# Altium footprint library 705550001.PcbLib: 1 footprints
Each footprint in its own frame and in the unit in brackets; x right, y up, seen from the top. Pads: shape width x height; smd on the part's side, far side on the other; paste and mask are expansions set on the pad; w line width, h text height; cw(c..) or ccw(c..) is an arc to the next point about the centre after c.
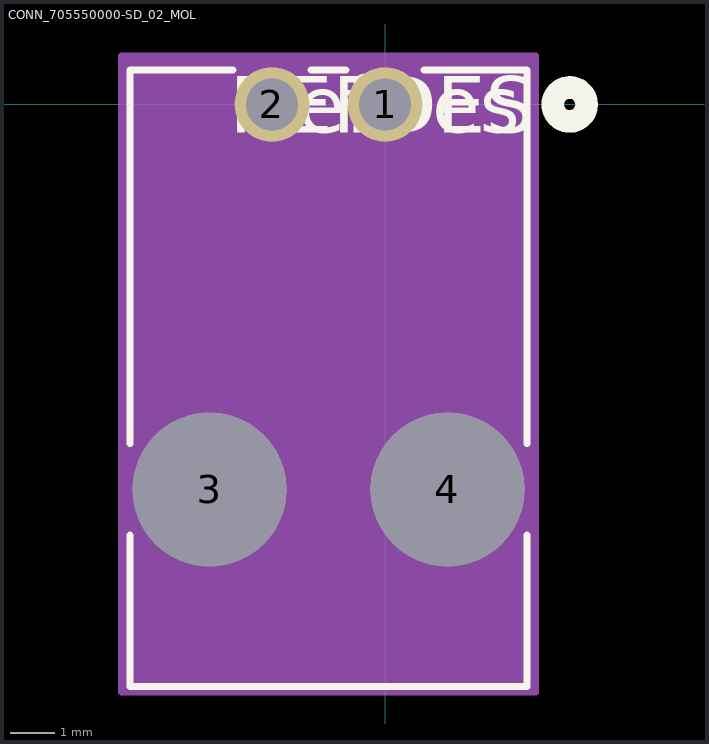
[diagram p0: the footprint, top view; thin cyan lines are the x and y axes]

## CONN_705550000-SD_02_MOL [mil]
pads (4):
  round 66 / inner round 60 / far side round 66 hole 46 paste-33 mask+0: 1(0,0) 2(-100,0)
  round 136 / inner round 60 / far side round 136 hole 136 unplated paste+0 mask+0: 3(-155.12,-340.16) 4(55.12,-340.16)
Top Overlay:
  circle w20: c163.12,0 r15
  lines w6: -225.5,-380.45 -225.5,-514.41 125.5,-514.41 125.5,-380.45 ; -225.5,-299.86 -225.5,30.59 -134.49,30.59 ; -65.51,30.59 -34.49,30.59 ; 34.49,30.59 125.5,30.59 125.5,-299.86
  text "RefDes" at -125,-25 h50
  text "REFDES" at -137.5,-25 h50
Bottom Overlay:
  circle w20: c163.12,0 r15
Mechanical 13:
  circle w20: c0,0 r15
  lines w1: -220.5,-509.41 120.5,-509.41 120.5,25.59 -220.5,25.59 -220.5,-509.41
  text "RefDes2" at -137.5,-25 h50
Mechanical 15:
  region: 133.12,43 -233.12,43 -233.12,-519.41 133.12,-519.41
  lines w6: -233.12,-519.41 -233.12,43 133.12,43 133.12,-519.41 -233.12,-519.41